# Altium integrated library LTE-Modem.IntLib: 37 symbols
Pins are listed as number, name and electrical type; pins without a type are passive.

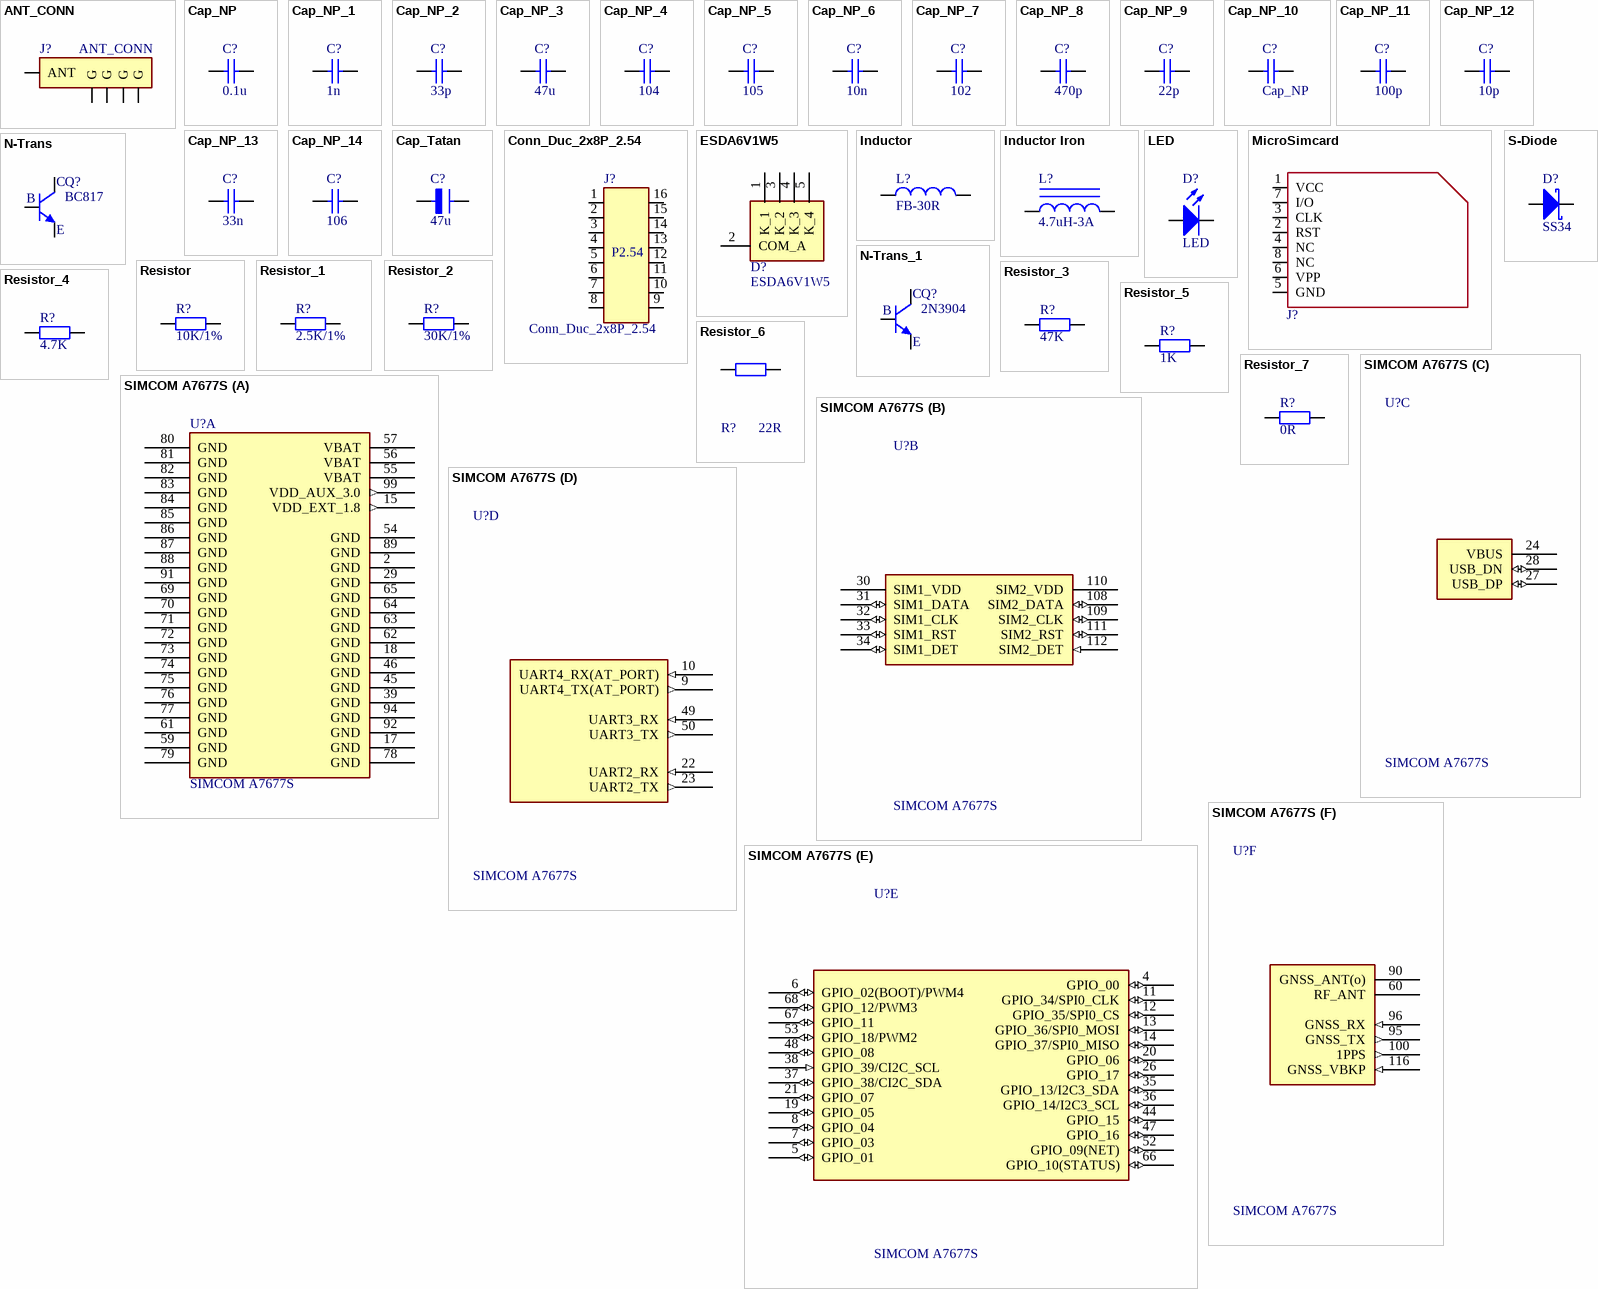
[diagram p0: symbols ANT_CONN to SIMCOM A7677S]

## ANT_CONN
designator J?
ATENNA PIN 1
footprint IPEX (IPX surface mount receptacle plug)
footprint SMA EDEG
footprint SMA_RAF_15 (Antenna RF GSM GPRS)
footprint SMA_RAM_15 (SMA_RAM_15 GPS ANTENNA)
pins: 1 ANT, 2 G, 3 G, 4 G, 5 G

## Cap_NP
designator C?, comment 0.1u
Non-polarized capacitor
footprint Cap_0402 (Chip Capacitor, 2-Leads, Body 1.00x0.50mm, IPC Medium Density)
footprint CAP_0603 (Chip Capacitor, 2-Leads, Body 1.60x0.80mm, IPC Medium Density)
footprint CAP_0805 (Chip Capacitor, 2-Leads, Body 2.00x1.25mm, IPC Medium Density)
footprint CAP_1206 (Chip Capacitor, 2-Leads, Body 3.20x1.60mm, IPC Low Density)
pins: 1, 2

## Cap_NP_1
designator C?, comment 1n
Non-polarized capacitor
footprint Cap_0402 (Chip Capacitor, 2-Leads, Body 1.00x0.50mm, IPC Medium Density)
footprint CAP_0603 (Chip Capacitor, 2-Leads, Body 1.60x0.80mm, IPC Medium Density)
footprint CAP_0805 (Chip Capacitor, 2-Leads, Body 2.00x1.25mm, IPC Medium Density)
footprint CAP_1206 (Chip Capacitor, 2-Leads, Body 3.20x1.60mm, IPC Low Density)
pins: 1, 2

## Cap_NP_2
designator C?, comment 33p
Non-polarized capacitor
footprint Cap_0402 (Chip Capacitor, 2-Leads, Body 1.00x0.50mm, IPC Medium Density)
footprint CAP_0603 (Chip Capacitor, 2-Leads, Body 1.60x0.80mm, IPC Medium Density)
footprint CAP_0805 (Chip Capacitor, 2-Leads, Body 2.00x1.25mm, IPC Medium Density)
footprint CAP_1206 (Chip Capacitor, 2-Leads, Body 3.20x1.60mm, IPC Low Density)
pins: 1, 2

## Cap_NP_3
designator C?, comment 47u
Non-polarized capacitor
footprint Cap_0402 (Chip Capacitor, 2-Leads, Body 1.00x0.50mm, IPC Medium Density)
footprint CAP_0603 (Chip Capacitor, 2-Leads, Body 1.60x0.80mm, IPC Medium Density)
footprint CAP_0805 (Chip Capacitor, 2-Leads, Body 2.00x1.25mm, IPC Medium Density)
footprint CAP_1206 (Chip Capacitor, 2-Leads, Body 3.20x1.60mm, IPC Low Density)
pins: 1, 2

## Cap_NP_4
designator C?, comment 104
Non-polarized capacitor
footprint Cap_0402 (Chip Capacitor, 2-Leads, Body 1.00x0.50mm, IPC Medium Density)
footprint CAP_0603 (Chip Capacitor, 2-Leads, Body 1.60x0.80mm, IPC Medium Density)
footprint CAP_0805 (Chip Capacitor, 2-Leads, Body 2.00x1.25mm, IPC Medium Density)
footprint CAP_1206 (Chip Capacitor, 2-Leads, Body 3.20x1.60mm, IPC Low Density)
pins: 1, 2

## Cap_NP_5
designator C?, comment 105
Non-polarized capacitor
footprint Cap_0402 (Chip Capacitor, 2-Leads, Body 1.00x0.50mm, IPC Medium Density)
footprint CAP_0603 (Chip Capacitor, 2-Leads, Body 1.60x0.80mm, IPC Medium Density)
footprint CAP_0805 (Chip Capacitor, 2-Leads, Body 2.00x1.25mm, IPC Medium Density)
footprint CAP_1206 (Chip Capacitor, 2-Leads, Body 3.20x1.60mm, IPC Low Density)
pins: 1, 2

## Cap_NP_6
designator C?, comment 10n
Non-polarized capacitor
footprint Cap_0402 (Chip Capacitor, 2-Leads, Body 1.00x0.50mm, IPC Medium Density)
footprint CAP_0603 (Chip Capacitor, 2-Leads, Body 1.60x0.80mm, IPC Medium Density)
footprint CAP_0805 (Chip Capacitor, 2-Leads, Body 2.00x1.25mm, IPC Medium Density)
footprint CAP_1206 (Chip Capacitor, 2-Leads, Body 3.20x1.60mm, IPC Low Density)
pins: 1, 2

## Cap_NP_7
designator C?, comment 102
Non-polarized capacitor
footprint Cap_0402 (Chip Capacitor, 2-Leads, Body 1.00x0.50mm, IPC Medium Density)
footprint CAP_0603 (Chip Capacitor, 2-Leads, Body 1.60x0.80mm, IPC Medium Density)
footprint CAP_0805 (Chip Capacitor, 2-Leads, Body 2.00x1.25mm, IPC Medium Density)
footprint CAP_1206 (Chip Capacitor, 2-Leads, Body 3.20x1.60mm, IPC Low Density)
pins: 1, 2

## Cap_NP_8
designator C?, comment 470p
Non-polarized capacitor
footprint Cap_0402 (Chip Capacitor, 2-Leads, Body 1.00x0.50mm, IPC Medium Density)
footprint CAP_0603 (Chip Capacitor, 2-Leads, Body 1.60x0.80mm, IPC Medium Density)
footprint CAP_0805 (Chip Capacitor, 2-Leads, Body 2.00x1.25mm, IPC Medium Density)
footprint CAP_1206 (Chip Capacitor, 2-Leads, Body 3.20x1.60mm, IPC Low Density)
pins: 1, 2

## Cap_NP_9
designator C?, comment 22p
Non-polarized capacitor
footprint Cap_0402 (Chip Capacitor, 2-Leads, Body 1.00x0.50mm, IPC Medium Density)
footprint CAP_0603 (Chip Capacitor, 2-Leads, Body 1.60x0.80mm, IPC Medium Density)
footprint CAP_0805 (Chip Capacitor, 2-Leads, Body 2.00x1.25mm, IPC Medium Density)
footprint CAP_1206 (Chip Capacitor, 2-Leads, Body 3.20x1.60mm, IPC Low Density)
pins: 1, 2

## Cap_NP_10
designator C?, comment Cap_NP
Non-polarized capacitor
footprint Cap_0402 (Chip Capacitor, 2-Leads, Body 1.00x0.50mm, IPC Medium Density)
footprint CAP_0603 (Chip Capacitor, 2-Leads, Body 1.60x0.80mm, IPC Medium Density)
footprint CAP_0805 (Chip Capacitor, 2-Leads, Body 2.00x1.25mm, IPC Medium Density)
footprint CAP_1206 (Chip Capacitor, 2-Leads, Body 3.20x1.60mm, IPC Low Density)
pins: 1, 2

## Cap_NP_11
designator C?, comment 100p
Non-polarized capacitor
footprint Cap_0402 (Chip Capacitor, 2-Leads, Body 1.00x0.50mm, IPC Medium Density)
footprint CAP_0603 (Chip Capacitor, 2-Leads, Body 1.60x0.80mm, IPC Medium Density)
footprint CAP_0805 (Chip Capacitor, 2-Leads, Body 2.00x1.25mm, IPC Medium Density)
footprint CAP_1206 (Chip Capacitor, 2-Leads, Body 3.20x1.60mm, IPC Low Density)
pins: 1, 2

## Cap_NP_12
designator C?, comment 10p
Non-polarized capacitor
footprint Cap_0402 (Chip Capacitor, 2-Leads, Body 1.00x0.50mm, IPC Medium Density)
footprint CAP_0603 (Chip Capacitor, 2-Leads, Body 1.60x0.80mm, IPC Medium Density)
footprint CAP_0805 (Chip Capacitor, 2-Leads, Body 2.00x1.25mm, IPC Medium Density)
footprint CAP_1206 (Chip Capacitor, 2-Leads, Body 3.20x1.60mm, IPC Low Density)
pins: 1, 2

## Cap_NP_13
designator C?, comment 33n
Non-polarized capacitor
footprint Cap_0402 (Chip Capacitor, 2-Leads, Body 1.00x0.50mm, IPC Medium Density)
footprint CAP_0603 (Chip Capacitor, 2-Leads, Body 1.60x0.80mm, IPC Medium Density)
footprint CAP_0805 (Chip Capacitor, 2-Leads, Body 2.00x1.25mm, IPC Medium Density)
footprint CAP_1206 (Chip Capacitor, 2-Leads, Body 3.20x1.60mm, IPC Low Density)
pins: 1, 2

## Cap_NP_14
designator C?, comment 106
Non-polarized capacitor
footprint Cap_0402 (Chip Capacitor, 2-Leads, Body 1.00x0.50mm, IPC Medium Density)
footprint CAP_0603 (Chip Capacitor, 2-Leads, Body 1.60x0.80mm, IPC Medium Density)
footprint CAP_0805 (Chip Capacitor, 2-Leads, Body 2.00x1.25mm, IPC Medium Density)
footprint CAP_1206 (Chip Capacitor, 2-Leads, Body 3.20x1.60mm, IPC Low Density)
pins: 1, 2

## Cap_Tatan
designator C?, comment 47u
Polarized tantaLum capacitor
footprint C_Tanta_A3216
footprint C_Tanta_B3528
footprint C_Tanta_C6032
footprint C_Tanta_D7343
footprint C_TANTA_E
pins: 1, 2

## Conn_Duc_2x8P_2.54
designator J?
System: Connector
footprint JP 2x8 DC (16 pins, dual row, right angled, gold plating)
footprint JP 2x8 DT (16 pins, dual pin, straight, gold plating)
pins: 1, 2, 3, 4, 5, 6, 7, 8, 9, 10, 11, 12, 13, 14, 15, 16
text: P2.54

## ESDA6V1W5
designator D?
Integrated Circuit; Manufacturer_Name: STMicroelectronics; Datasheet Link: http://www.st.com/st-web-ui/static/active/en/resource/technical/document/datasheet/CD00064033.pdf; Height: 1.1mm; Manufacturer_Part_Number: ESDA6V1W5; Mouser Part Number: 511-ESDA6V1W5; Mouser Price/Stock: https://www.mouser.co.uk/ProductDetail/STMicroelectronics/ESDA6V1W5?qs=9NrABl3fj%2FrhT5vdkOmqXg%3D%3D; Arrow Part Number: ESDA6V1W5; Arrow Price/Stock: https://www.arrow.com/en/products/esda6v1w5/stmicroelectronics?utm_currency=USD&region=nac
footprint SOT65P210X110-5N
pins: 1 K_1, 2 COM_A, 3 K_2, 4 K_3, 5 K_4

## Inductor
designator L?, comment FB-30R
Inductor; Code_IEC: 1005; Published: 8-Jun-2000; LatestRevisionDate: 29-May-2009; LatestRevisionNote: IPC-7351 Footprint Added.; PackageReference: 0402-A; Publisher: Altium Limited; PackageDescription: Chip Inductor; Code_JEITA: 0402
footprint INDC-0402 (Chip Inductor, 2-Leads, Body 1.00x0.50mm, IPC Low Density)
footprint INDC-0603 (Chip Inductor, 2-Leads, Body 1.60x0.85mm, IPC Low Density)
footprint INDC-0805 (Chip Inductor, 2-Leads, Body 2.10x1.35mm, IPC Low Density)
pins: 1, 2

## Inductor Iron
designator L?, comment 4.7uH-3A
Magnetic-Core Inductor; Published: 24-Mar-1999; LatestRevisionDate: 17-Jul-2002; LatestRevisionNote: Re-released for DXP Platform.; PackageReference: AXIAL-0.9; Publisher: Altium Limited; PackageDescription: Axial Device, Thru-Hole; 2 Leads; 0.9 in Pin Spacing
footprint INDC-0402 (Chip Inductor, 2-Leads, Body 1.00x0.50mm, IPC Low Density)
footprint INDC-0603 (Chip Inductor, 2-Leads, Body 1.60x0.85mm, IPC Low Density)
footprint INDC-0805 (Chip Inductor, 2-Leads, Body 2.10x1.35mm, IPC Low Density)
footprint IND-1040 (Molded Inductor, 2-Leads, Body 10.25x10.10mm, IPC Low Density)
footprint IND-0520 (Molded Inductor, 2-Leads, Body 5.20x5.70mm, IPC Medium Density)
footprint IND-0630 (Molded Inductor, 2-Leads, Body 7.05x7.65mm, IPC Low Density)
pins: 1, 2

## LED
designator D?
Light Emitting Diode
footprint LED-0805-Green
footprint LED-0805-Orange
footprint LED-0805-Red
footprint LED-0805-Yellow
footprint LED-1206-Blue (Compoment SMD 120x60mil)
footprint LED-1206-Green
footprint LED-1206-Orange
footprint LED-1206-Red
footprint LED-1206-Yellow
footprint LED-3528-BLUE
footprint LED-3528-GREEN
footprint LED-3528-ORANGE
footprint LED-3528-RED
footprint LED-3528-WHITE
footprint LED-3528-YELLOW
pins: 1 A, 2 K

## MicroSimcard
designator J?  (value not drawn)
Micro Simcard Socket
footprint MICRO SIM SOCKET
pins: 1 VCC, 2 RST, 3 CLK, 4 NC, 5 GND, 6 VPP, 7 I/O, 8 NC

## N-Trans
designator Q?, comment BC817
footprint SOT-23 (SOT 23 _ 1-3-2)
pins: 1 B, 2 C, 3 E

## N-Trans_1
designator Q?, comment 2N3904
footprint SOT-23 (SOT 23 _ 1-3-2)
pins: 1 B, 2 C, 3 E

## Resistor
designator R?, comment 10K/1%
footprint RES_0402 (Chip Resistor, 2-Leads, Body 1.00x0.50mm, IPC Low Density)
footprint RES_0603 (Chip Resistor, 2-Leads, Body 1.60x0.80mm, IPC Medium Density)
footprint RES_0805 (Chip Resistor, 2-Leads, Body 2.00x1.25mm, IPC Low Density)
footprint RES_1206 (Chip Resistor, 2-Leads, Body 3.30x1.60mm, IPC Medium Density)
footprint RES_1210 (Chip Resistor, 2-Leads, Body 3.22x2.54mm, IPC Low Density)
footprint RES_2512 (Chip Resistor, 2-Leads, Body 6.35x3.20mm, IPC Low Density)
pins: 1, 2

## Resistor_1
designator R?, comment 2.5K/1%
footprint RES_0402 (Chip Resistor, 2-Leads, Body 1.00x0.50mm, IPC Low Density)
footprint RES_0603 (Chip Resistor, 2-Leads, Body 1.60x0.80mm, IPC Medium Density)
footprint RES_0805 (Chip Resistor, 2-Leads, Body 2.00x1.25mm, IPC Low Density)
footprint RES_1206 (Chip Resistor, 2-Leads, Body 3.30x1.60mm, IPC Medium Density)
footprint RES_1210 (Chip Resistor, 2-Leads, Body 3.22x2.54mm, IPC Low Density)
footprint RES_2512 (Chip Resistor, 2-Leads, Body 6.35x3.20mm, IPC Low Density)
pins: 1, 2

## Resistor_2
designator R?, comment 30K/1%
footprint RES_0402 (Chip Resistor, 2-Leads, Body 1.00x0.50mm, IPC Low Density)
footprint RES_0603 (Chip Resistor, 2-Leads, Body 1.60x0.80mm, IPC Medium Density)
footprint RES_0805 (Chip Resistor, 2-Leads, Body 2.00x1.25mm, IPC Low Density)
footprint RES_1206 (Chip Resistor, 2-Leads, Body 3.30x1.60mm, IPC Medium Density)
footprint RES_1210 (Chip Resistor, 2-Leads, Body 3.22x2.54mm, IPC Low Density)
footprint RES_2512 (Chip Resistor, 2-Leads, Body 6.35x3.20mm, IPC Low Density)
pins: 1, 2

## Resistor_3
designator R?, comment 47K
footprint RES_0402 (Chip Resistor, 2-Leads, Body 1.00x0.50mm, IPC Low Density)
footprint RES_0603 (Chip Resistor, 2-Leads, Body 1.60x0.80mm, IPC Medium Density)
footprint RES_0805 (Chip Resistor, 2-Leads, Body 2.00x1.25mm, IPC Low Density)
footprint RES_1206 (Chip Resistor, 2-Leads, Body 3.30x1.60mm, IPC Medium Density)
footprint RES_1210 (Chip Resistor, 2-Leads, Body 3.22x2.54mm, IPC Low Density)
footprint RES_2512 (Chip Resistor, 2-Leads, Body 6.35x3.20mm, IPC Low Density)
pins: 1, 2

## Resistor_4
designator R?, comment 4.7K
footprint RES_0402 (Chip Resistor, 2-Leads, Body 1.00x0.50mm, IPC Low Density)
footprint RES_0603 (Chip Resistor, 2-Leads, Body 1.60x0.80mm, IPC Medium Density)
footprint RES_0805 (Chip Resistor, 2-Leads, Body 2.00x1.25mm, IPC Low Density)
footprint RES_1206 (Chip Resistor, 2-Leads, Body 3.30x1.60mm, IPC Medium Density)
footprint RES_1210 (Chip Resistor, 2-Leads, Body 3.22x2.54mm, IPC Low Density)
footprint RES_2512 (Chip Resistor, 2-Leads, Body 6.35x3.20mm, IPC Low Density)
pins: 1, 2

## Resistor_5
designator R?, comment 1K
footprint RES_0402 (Chip Resistor, 2-Leads, Body 1.00x0.50mm, IPC Low Density)
footprint RES_0603 (Chip Resistor, 2-Leads, Body 1.60x0.80mm, IPC Medium Density)
footprint RES_0805 (Chip Resistor, 2-Leads, Body 2.00x1.25mm, IPC Low Density)
footprint RES_1206 (Chip Resistor, 2-Leads, Body 3.30x1.60mm, IPC Medium Density)
footprint RES_1210 (Chip Resistor, 2-Leads, Body 3.22x2.54mm, IPC Low Density)
footprint RES_2512 (Chip Resistor, 2-Leads, Body 6.35x3.20mm, IPC Low Density)
pins: 1, 2

## Resistor_6
designator R?, comment 22R
footprint RES_0402 (Chip Resistor, 2-Leads, Body 1.00x0.50mm, IPC Low Density)
footprint RES_0603 (Chip Resistor, 2-Leads, Body 1.60x0.80mm, IPC Medium Density)
footprint RES_0805 (Chip Resistor, 2-Leads, Body 2.00x1.25mm, IPC Low Density)
footprint RES_1206 (Chip Resistor, 2-Leads, Body 3.30x1.60mm, IPC Medium Density)
footprint RES_1210 (Chip Resistor, 2-Leads, Body 3.22x2.54mm, IPC Low Density)
footprint RES_2512 (Chip Resistor, 2-Leads, Body 6.35x3.20mm, IPC Low Density)
pins: 1, 2

## Resistor_7
designator R?, comment 0R
footprint RES_0402 (Chip Resistor, 2-Leads, Body 1.00x0.50mm, IPC Low Density)
footprint RES_0603 (Chip Resistor, 2-Leads, Body 1.60x0.80mm, IPC Medium Density)
footprint RES_0805 (Chip Resistor, 2-Leads, Body 2.00x1.25mm, IPC Low Density)
footprint RES_1206 (Chip Resistor, 2-Leads, Body 3.30x1.60mm, IPC Medium Density)
footprint RES_1210 (Chip Resistor, 2-Leads, Body 3.22x2.54mm, IPC Low Density)
footprint RES_2512 (Chip Resistor, 2-Leads, Body 6.35x3.20mm, IPC Low Density)
pins: 1, 2

## S-Diode
designator D?, comment SS34
Schottky diode
footprint MELF (MELF Diode, 2-Leads, Body 5.00x2.50mm, IPC Low Density)
footprint MINI-MELF (MELF Diode, 2-Leads, Body 3.50x1.45mm, IPC Low Density)
footprint SMA (Molded Diode, 2-Leads, Body 4.31x2.49mm, IPC Low Density)
footprint SMB (Molded Diode, 2-Leads, Body 4.31x3.62mm, IPC Low Density)
footprint SMC (Molded Diode, 2-Leads, Body 6.86x5.91mm, IPC Low Density)
pins: 1 A, 2 K

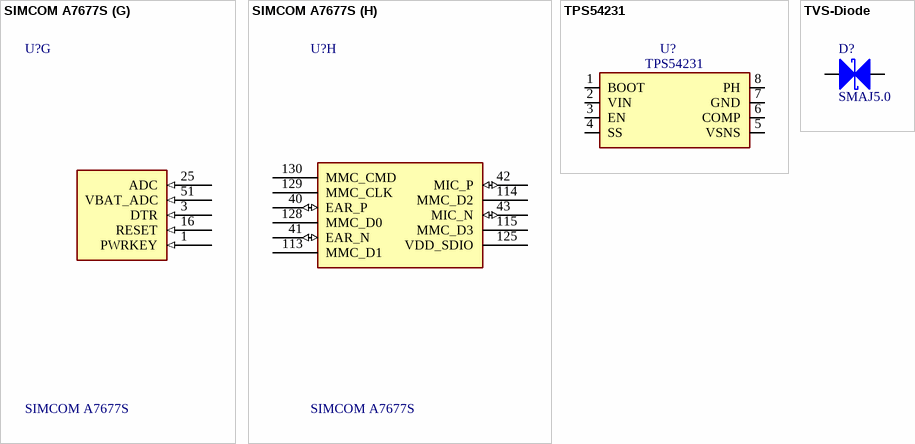
[diagram p1: symbols SIMCOM A7677S to TVS-Diode]

## SIMCOM A7677S
designator U?
footprint SIMA7677S
part A pins: 2 GND (power), 15 VDD_EXT_1.8 (out), 17 GND (power), 18 GND (power), 29 GND (power), 39 GND (power), 45 GND (power), 46 GND (power), 54 GND (power), 55 VBAT (power), 56 VBAT (power), 57 VBAT (power), 58 GND (power) hidden, 59 GND (power), 61 GND (power), 62 GND (power), 63 GND (power), 64 GND (power), 65 GND (power), 69 GND (power), 70 GND (power), 71 GND (power), 72 GND (power), 73 GND (power), 74 GND (power), 75 GND (power), 76 GND (power), 77 GND (power), 78 GND (power), 79 GND (power), 80 GND (power), 81 GND (power), 82 GND (power), 83 GND (power), 84 GND (power), 85 GND (power), 86 GND (power), 87 GND (power), 88 GND (power), 89 GND (power), 91 GND (power), 92 GND (power), 94 GND (power), 99 VDD_AUX_3.0 (out)
part B pins: 30 SIM1_VDD (power), 31 SIM1_DATA (io), 32 SIM1_CLK (io), 33 SIM1_RST (io), 34 SIM1_DET (io), 108 SIM2_DATA (io), 109 SIM2_CLK (io), 110 SIM2_VDD (power), 111 SIM2_RST (io), 112 SIM2_DET (in)
part C pins: 24 VBUS (power), 27 USB_DP (io), 28 USB_DN (io)
part D pins: 9 UART4_TX(AT_PORT) (out), 10 UART4_RX(AT_PORT) (in), 22 UART2_RX (in), 23 UART2_TX (out), 49 UART3_RX (in), 50 UART3_TX (out)
part E pins: 4 GPIO_00 (io), 5 GPIO_01 (io), 6 GPIO_02(BOOT)/PWM4 (io), 7 GPIO_03 (io), 8 GPIO_04 (io), 11 GPIO_34/SPI0_CLK (io), 12 GPIO_35/SPI0_CS (io), 13 GPIO_36/SPI0_MOSI (io), 14 GPIO_37/SPI0_MISO (io), 19 GPIO_05 (io), 20 GPIO_06 (io), 21 GPIO_07 (io), 26 GPIO_17 (io), 35 GPIO_13/I2C3_SDA (io), 36 GPIO_14/I2C3_SCL (io), 37 GPIO_38/CI2C_SDA (io), 38 GPIO_39/CI2C_SCL (in), 44 GPIO_15 (io), 47 GPIO_16 (io), 48 GPIO_08 (io), 52 GPIO_09(NET) (io), 53 GPIO_18/PWM2 (io), 66 GPIO_10(STATUS) (io), 67 GPIO_11 (io), 68 GPIO_12/PWM3 (io)
part F pins: 60 RF_ANT, 90 GNSS_ANT(o), 95 GNSS_TX (out), 96 GNSS_RX (in), 100 1PPS (out), 116 GNSS_VBKP (in)
part G pins: 1 PWRKEY (in), 3 DTR (in), 16 RESET (in), 25 ADC (in), 51 VBAT_ADC (in)
part H pins: 40 EAR_P (io), 41 EAR_N (io), 42 MIC_P (io), 43 MIC_N (io), 113 MMC_D1, 114 MMC_D2, 115 MMC_D3, 125 VDD_SDIO, 128 MMC_D0, 129 MMC_CLK, 130 MMC_CMD

## TPS54231
designator U?
2-A, 28-V Input, Step-Down DC-DC Converter
footprint SOIC8-1.75H (SOIC, 8-Leads, Body 4.91x3.90mm, Pitch 1.27mm, IPC Medium Density)
pins: 1 BOOT, 2 VIN, 3 EN, 4 SS, 5 VSNS, 6 COMP, 7 GND, 8 PH

## TVS-Diode
designator D?, comment SMAJ5.0
TVS diode
footprint MELF (MELF Diode, 2-Leads, Body 5.00x2.50mm, IPC Low Density)
footprint MINI-MELF (MELF Diode, 2-Leads, Body 3.50x1.45mm, IPC Low Density)
footprint SMA (Molded Diode, 2-Leads, Body 4.31x2.49mm, IPC Low Density)
footprint SMB (Molded Diode, 2-Leads, Body 4.31x3.62mm, IPC Low Density)
footprint SMC (Molded Diode, 2-Leads, Body 6.86x5.91mm, IPC Low Density)
pins: 1 K, 2 A